# EAGLE library part SDCARD_INTERFACE (library HyTechDevices)
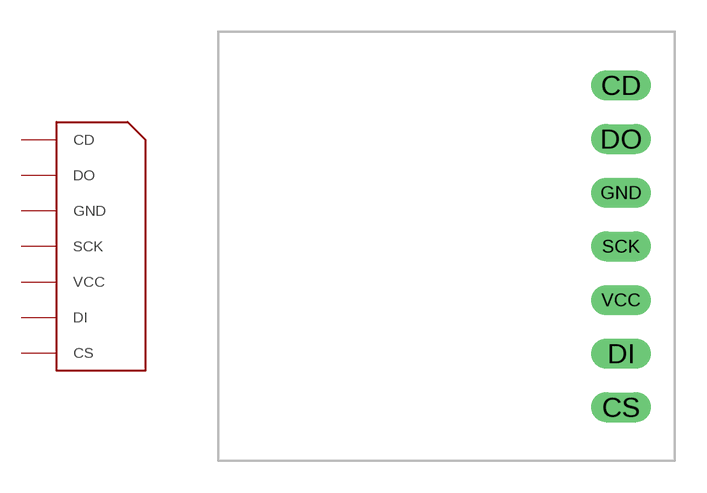
[diagram p88: symbol with the pads of SDCARD_INTERFACE; footprint SDCARD_INTERFACE]

Designator prefix -

## SDCARD_INTERFACE  [SDCARD_INTERFACE]
CD  CD
CS  CS
DI  DI
DO  DO
GND  GND
SCK  SCK
VCC  VCC

## Footprint SDCARD_INTERFACE (pad centres in mm)
drill 0.9 long: CD 2.54,0; CS 2.54,-15.24; DI 2.54,-12.7; DO 2.54,-2.54; GND 2.54,-5.08; SCK 2.54,-7.62; VCC 2.54,-10.16